# Altium schematic symbol library Antenna.SCHLIB: 130 symbols (part 4 of 4)
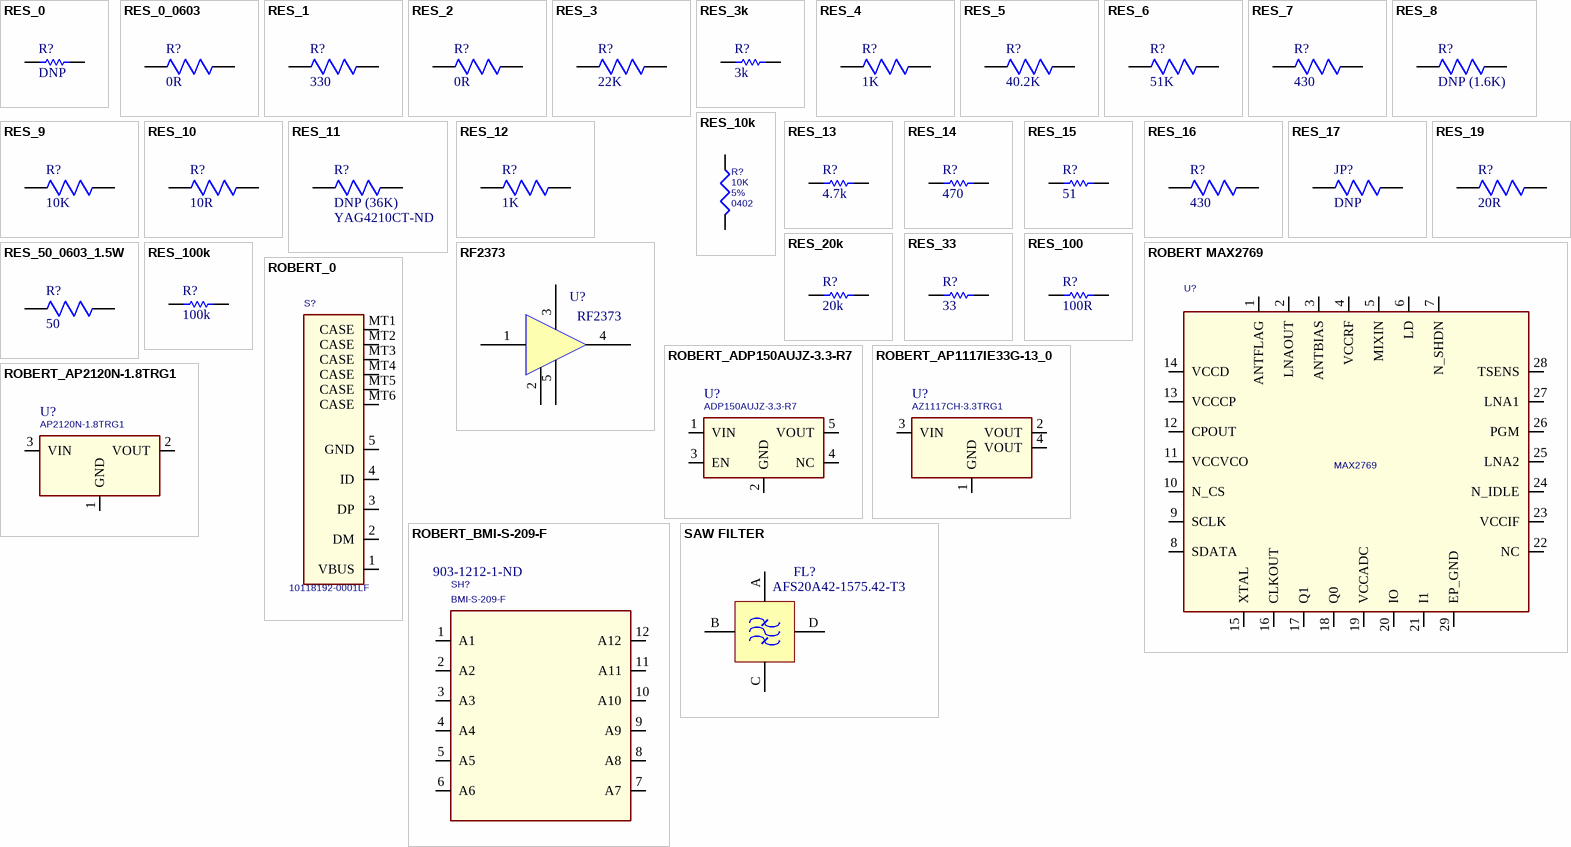
[diagram p6: symbols RES_0 to SAW FILTER]

## RES_33
designator R?, comment 33
Manufacturer Part Number: CRCW040233R0FKTD; Supplier 1: Arrow Electronics; Supplier Part Number 1: CRCW040233R0FKTD
footprint RESC1005X40X25LL05T10 (Chip Resistor, 2-Leads, Body 1.00x0.50mm, IPC High Density)
footprint RESC1005X40X25ML05T10 (Chip Resistor, 2-Leads, Body 1.00x0.50mm, IPC Low Density)
footprint RESC1005X40X25NL05T10 (Chip Resistor, 2-Leads, Body 1.00x0.50mm, IPC Medium Density)
footprint MCMR04X330JTL
pins: 1, 2
1 alternate drawing of the same symbol

## RES_50_0603_1.5W
designator R?, comment 50
50 Ohm Space Resistor; Manufacturer Part Number: 311-430JRCT-ND; Manufacturer: Yageo; Manufacturer Part Number: RC0402JR-07430RL; Resistance: 430R; Tolerance: 5%; Temperature Coefficient: 100ppm/°C; Power Rating: 62.5mW; Voltage Rating: 50V; Max Power Dissipation: 63mW; RoHS: Yes; Category: Chip SMD Resistors; Stock 1: 521; Pricing 1: 1=0.10000, 10=0.01300, 100=0.00530, 1000=0.00236, 2500=0.00205, 5000=0.00169 (USD); Case/Package: 0402; Contact Plating: Tin,Matte; Case Code (Imperial): 0402; Case Code (Metric): 1005; Min Operating Temperature: -55°C; Max Operating Temperature: 155°C; Composition: Thick Film; Voltage Rating (DC): 50V; Packaging: Tape and Reel; Package Quantity: 1; Working Voltage: 50V; Termination: SMD/SMT; Number of Terminations: 2; Military Standard: Not; Features: Moisture Resistant; Length: 0.039inch; Height: 0.016inch; Width: 0.02inch; Depth: 0.5mm; Lead Free: Lead Free; ComponentLink1URL: https://datasheet.ciiva.com/2452/pyu-r-int-thick-7-2452725.pdf?src-supplier=Digi-Key; ComponentLink1Description: https://datasheet.ciiva.com/2452/pyu-r-int-thick-7-2452725.pdf?src-supplier=Digi-Key; ComponentLink2URL: https://datasheet.ciiva.com/16743/pyu-rc0402-51-rohs-l-6-r-16743893.pdf?src-supplier=Future+Electronics; ComponentLink2Description: https://datasheet.ciiva.com/16743/pyu-rc0402-51-rohs-l-6-r-16743893.pdf?src-supplier=Future+Electronics; ComponentLink3URL: https://datasheet.ciiva.com/16863/pyu-rc0402-51-rohs-l-6-16863285.pdf?src-supplier=Avnet+Europe; ComponentLink3Description: https://datasheet.ciiva.com/16863/pyu-rc0402-51-rohs-l-6-16863285.pdf?src-supplier=Avnet+Europe; ComponentLink4URL: https://datasheet.ciiva.com/2452/pyu-r-int-thick-7-2452726.pdf?src-supplier=Digi-Key; ComponentLink4Description: https://datasheet.ciiva.com/2452/pyu-r-int-thick-7-2452726.pdf?src-supplier=Digi-Key; ComponentLink5URL: https://datasheet.ciiva.com/2452/pyu-r-int-thick-7-2452727.pdf?src-supplier=Digi-Key; ComponentLink5Description: https://datasheet.ciiva.com/2452/pyu-r-int-thick-7-2452727.pdf?src-supplier=Digi-Key; ComponentLink6URL: https://datasheet.ciiva.com/28390/pyu-rc0402-51-rohs-l-6-28390744.pdf?src-supplier=Avnet+Europe; ComponentLink6Description: https://datasheet.ciiva.com/28390/pyu-rc0402-51-rohs-l-6-28390744.pdf?src-supplier=Avnet+Europe; Supplier 1: Digi-Key; Supplier Part Number 1: 541-2655-1-ND
footprint RES400
footprint 0805
footprint 1206
footprint 0603
footprint R0402
pins: 1, 2
2 alternate drawings of the same symbol

## RES_100
designator R?, comment 100R
Chip Resistor, 100 Ohm, +/- 1%, 100 mW, -55 to 155 degC, 0402 (1005 Metric), RoHS, Tape and Reel; Manufacturer Part Number: RC0402FR-13100RL; ComponentLink2Description: Datasheet; ComponentLink1URL: http://www.panasonic.com/; ComponentLink1Description: Manufacturer URL; ComponentLink2URL: http://industrial.panasonic.com/cdbs/www-data/pdf/RDA0000/AOA0000C86.pdf; Supplier 1: Avnet; Supplier Part Number 1: RC0402FR-13100RL
footprint RESC1005X40X25LL05T05 (Chip Resistor, 2-Leads, Body 1.05x0.55mm, IPC High Density)
footprint RESC1005X40X25ML05T05 (Chip Resistor, 2-Leads, Body 1.05x0.55mm, IPC Low Density)
footprint RESC1005X40X25NL05T05 (Chip Resistor, 2-Leads, Body 1.05x0.55mm, IPC Medium Density)
footprint 0402_RES
pins: 1, 2

## RES_100k
designator R?, comment 100k
Manufacturer Part Number: CRCW0402100KJNED; Manufacturer: Vishay Dale; Supplier 1: Digi-Key; Supplier Part Number 1: 541-100KJCT-ND
footprint RESC1005X40X25NL05T05 (Chip Resistor, 2-Leads, Body 1.00x0.50mm, IPC Medium Density)
footprint 0402_RES
pins: 1, 2
1 alternate drawing of the same symbol

## RF2373
designator U?
Current-Adjustable, Low Noise Amplifier; Manufacturer: Qorvo; Manufacturer Part Number: RF2373TR7; Supplier 1: Mouser; Supplier Part Number 1: 772-RF2373TR7; RoHS: No; Stock 1: 5841; Pricing 1: 1=0.78000, 25=0.78000, 100=0.78000, 250=0.72000, 500=0.63000, 1000=0.52000, 2500=0.42000 (USD)
footprint SOT23-5
pins: 1 In, 2 Gnd, 3 Bias, 4 Out, 5 Gnd

## ROBERT MAX2769
designator U?, comment MAX2769
Manufacturer Part Number: MAX2769CETI+; Mfg: Maxim; MfgPN: MAX2769ETI+; Interface: SPI; Frequency: 1.575GHz; Current - Receiving: 18mA; Supplier 1: Mouser; Supplier Part Number 1: 700-MAX2769CETI+; Manufacturer: Maxim; RoHS: No; Stock 1: 99; Pricing 1: 1=6.28000, 10=4.62000, 25=3.69000, 50=3.51000, 100=3.23000, 250=3.07000, 2000=3.06000 (USD); Min Operating Temperature: -40°C; Max Operating Temperature: 85°C; Packaging: Rail/Tube; ComponentLink1URL: http://www.farnell.com/datasheets/2575895.pdf?src-supplier=Farnell; ComponentLink1Description: http://www.farnell.com/datasheets/2575895.pdf?src-supplier=Farnell; ComponentLink2URL: https://datasheets.maximintegrated.com/en/ds/MAX2769C.pdf?src-supplier=Digi-Key; ComponentLink2Description: https://datasheets.maximintegrated.com/en/ds/MAX2769C.pdf?src-supplier=Digi-Key
footprint TQFN28(5X5)
pins: 1 ANTFLAG, 2 LNAOUT, 3 ANTBIAS, 4 VCCRF, 5 MIXIN, 6 LD, 7 N_SHDN, 8 SDATA, 9 SCLK, 10 N_CS, 11 VCCVCO, 12 CPOUT, 13 VCCCP, 14 VCCD, 15 XTAL, 16 CLKOUT, 17 Q1, 18 Q0, 19 VCCADC, 20 IO, 21 I1, 22 NC, 23 VCCIF, 24 N_IDLE, 25 LNA2, 26 PGM, 27 LNA1, 28 TSENS, 29 EP_GND

## ROBERT_0
designator S?, comment 10118192-0001LF
CONN RCPT USB2.0 MICRO B SMD R/A; Manufacturer: Amphenol FCI; Mfg: FCI; Gender: Receptacle; Current Rating: 1.8A; Connector Type: USB,Receptacle; Number of Contacts: 5; Number of Ports: 1; Insulation Resistance: 1GR; Max Voltage Rating (AC): 100V; Pitch: 0.65mm; Package: MICROUSB_10118192; MfgPN: 10118192-0001LF; Supplier 1: Newark; Supplier Part Number 1: 67T2258; Manufacturer Part Number: 10118192-0001LF; RoHS: Yes; Category: USB Connectors; Stock 1: 14656; Pricing 1: 1=0.48800, 25=0.34500, 100=0.33200, 250=0.31100, 500=0.28900 (USD); Mount: Surface Mount,Horizontal; Contact Plating: Gold; Housing Material: Polymer; Contact Material: Copper Alloy; Color: Black; Number of Terminals: 5; Min Operating Temperature: -55°C; Max Operating Temperature: 85°C; Termination: Solder; Orientation: Right Angle; Packaging: Tape and Reel; Features: Shielded; Package Quantity: 1400; Voltage Rating: 100V; USB Standard: USB 2.0; Length: 7.86mm; Depth: 5.57mm; Radiation Hardening: No; Flammability Rating: UL94 V-0; Lead Free: Lead Free; REACH SVHC: No SVHC; ComponentLink1URL: https://datasheet.ciiva.com/26853/getdatasheetpartid-418041-26853891.pdf?src-supplier=Verical; ComponentLink1Description: https://datasheet.ciiva.com/26853/getdatasheetpartid-418041-26853891.pdf?src-supplier=Verical; ComponentLink2URL: https://datasheet.ciiva.com/851/10118192-851112.pdf?src-supplier=Digi-Key; ComponentLink2Description: https://datasheet.ciiva.com/851/10118192-851112.pdf?src-supplier=Digi-Key; ComponentLink3URL: https://datasheet.ciiva.com/4598/10118192ac-197249-4598796.pdf?src-supplier=Mouser; ComponentLink3Description: https://datasheet.ciiva.com/4598/10118192ac-197249-4598796.pdf?src-supplier=Mouser
footprint MICROUSB_10118192
pins: 1 VBUS, 2 DM, 3 DP, 4 ID, 5 GND, MT1 CASE, MT2 CASE, MT3 CASE, MT4 CASE, MT5 CASE, MT6 CASE

## ROBERT_ADP150AUJZ-3.3-R7
designator U?, comment ADP150AUJZ-3.3-R7
ANALOG DEVICES - ADP150AUJZ-3.3-R7 - LDO VOLTAGE REGULATOR, 3.3V, 150mA, TSOT-5, FULL REEL; Max Input Voltage: 5.5V; Min Input Voltage: 2.2V; Number of Outputs: 1; Output Type: Fixed; Polarity: Positive; Accuracy: 1%; Dropout Voltage: 105mV; Operating Supply Current: 10uA; Power Supply Rejection Ratio (PSRR): 70dB; Max Supply Current: 320uA; Min Current Limit: 190mA; Package: SOT-23-5; MfgPN: ADP150AUJZ-3.3-R7; Mfg: Analog Devices; Supplier 1: Digi-Key; Supplier Part Number 1: ADP150AUJZ-3.3-R7CT-ND; Manufacturer: Analog Devices; Manufacturer Part Number: ADP150AUJZ-3.3-R7; RoHS: Yes; Category: Voltage Regulators - Linear; Stock 1: 10023; Pricing 1: 1=1.06000, 10=0.94400, 25=0.89600, 100=0.68800, 250=0.60800, 500=0.57600, 1000=0.44800 (USD); Case/Package: TSOT; Number of Pins: 5; Min Operating Temperature: -40°C; Max Operating Temperature: 125°C; Max Output Current: 150mA; Output Voltage: 3.3V; Packaging: Tape and Reel; Nominal Output Voltage: 3.3V; Output Current: 150mA; Number of Regulators: 1; Quiescent Current: 10uA; Nominal Supply Current: 10uA; Output Voltage Accuracy: 1%; Length: 2.9mm; Height: 0.9mm; Width: 1.6mm; REACH SVHC: No SVHC; Lead Free: Contains Lead; ComponentLink1URL: https://datasheet.ciiva.com/2040/adp150-2040608.pdf?src-supplier=Digi-Key; ComponentLink1Description: https://datasheet.ciiva.com/2040/adp150-2040608.pdf?src-supplier=Digi-Key; ComponentLink2URL: https://datasheet.ciiva.com/2040/adp150-2040609.pdf?src-supplier=Digi-Key; ComponentLink2Description: https://datasheet.ciiva.com/2040/adp150-2040609.pdf?src-supplier=Digi-Key; ComponentLink3URL: https://datasheet.ciiva.com/3223/adp150-3223365.pdf?src-supplier=Avnet; ComponentLink3Description: https://datasheet.ciiva.com/3223/adp150-3223365.pdf?src-supplier=Avnet; ComponentLink4URL: https://datasheet.ciiva.com/17365/adp150-17365622.pdf?src-supplier=Avnet+Europe; ComponentLink4Description: https://datasheet.ciiva.com/17365/adp150-17365622.pdf?src-supplier=Avnet+Europe; ComponentLink5URL: https://datasheet.ciiva.com/2040/adp150-2040607.pdf?src-supplier=Digi-Key; ComponentLink5Description: https://datasheet.ciiva.com/2040/adp150-2040607.pdf?src-supplier=Digi-Key; ComponentLink6URL: https://datasheet.ciiva.com/7993/1780757-7993591.pdf?src-supplier=Element14; ComponentLink6Description: https://datasheet.ciiva.com/7993/1780757-7993591.pdf?src-supplier=Element14; ComponentLink7URL: https://datasheet.ciiva.com/3224/adp150-3224652.pdf?src-supplier=Avnet; ComponentLink7Description: https://datasheet.ciiva.com/3224/adp150-3224652.pdf?src-supplier=Avnet
footprint SOT23-5
pins: 1 VIN, 2 GND, 3 EN, 4 NC, 5 VOUT
1 alternate drawing of the same symbol

## ROBERT_AP1117IE33G-13_0
designator U?, comment AZ1117CH-3.3TRG1
IC REG LINEAR 3.3V 800MA SOT223; Manufacturer: Diodes; Mfg: Diodes Inc; Power Supply Rejection Ratio (PSRR): 70dB; Accuracy: 1%; Output Type: Fixed; Number of Regulators: 1; Min Current Limit: 1A; Max Output Current: 1.35A; Quiescent Current: 6mA; Polarity: Positive; Reference Voltage: 1.262V; Max Input Voltage: 15V; Dropout Voltage: 1.2V; Package: SOT-223; MfgPN: AZ1117CH-3.3TRG1; Supplier 1: Digi-Key; Supplier Part Number 1: AZ1117CH-3.3TRG1DICT-ND; Manufacturer Part Number: AZ1117CH-3.3TRG1; RoHS: Yes; Category: Voltage Regulators - Linear; Stock 1: 24536; Pricing 1: 1=0.43000, 10=0.32100, 25=0.28120, 100=0.16060, 250=0.15056, 500=0.12046, 1000=0.09235 (USD); Mount: Surface Mount; Case/Package: SOT-223; Number of Pins: 4; Min Operating Temperature: -20°C; Max Operating Temperature: 125°C; Output Current: 800mA; Packaging: Tape and Reel; Number of Outputs: 1; Output Voltage: 3.3V; Package Quantity: 4000; Length: 6.7mm; Height: 1.7mm; Width: 3.7mm; Lead Free: Lead Free; ComponentLink1URL: https://datasheet.ciiva.com/29569/az1117c-29569915.pdf?src-supplier=Digi-Key; ComponentLink1Description: https://datasheet.ciiva.com/29569/az1117c-29569915.pdf?src-supplier=Digi-Key; ComponentLink2URL: https://datasheet.ciiva.com/29569/az1117c-29569913.pdf?src-supplier=Digi-Key; ComponentLink2Description: https://datasheet.ciiva.com/29569/az1117c-29569913.pdf?src-supplier=Digi-Key; ComponentLink3URL: https://datasheet.ciiva.com/29569/az1117c-29569914.pdf?src-supplier=Digi-Key; ComponentLink3Description: https://datasheet.ciiva.com/29569/az1117c-29569914.pdf?src-supplier=Digi-Key
footprint SOT223
pins: 1 GND, 2 VOUT, 3 VIN, 4 VOUT
1 alternate drawing of the same symbol

## ROBERT_AP2120N-1.8TRG1
designator U?, comment AP2120N-1.8TRG1
In a Pack of 100, DiodesZetex AP2120N-1.8TRG1, LDO Regulator, 1.8 V, ±2% 3-Pin, SOT-23; Manufacturer: Diodes; Mfg: Diodes Inc; Output Type: Fixed; Output Current: 150mA; Number of Regulators: 1; Quiescent Current: 50uA; Polarity: Positive; Operating Supply Current: 25uA; Power Supply Rejection Ratio (PSRR): 65dB; Dropout Voltage: 300mV; Min Input Voltage: 2V; Max Input Voltage: 6V; Output Voltage: 1.8V; Package: SOT-23; MfgPN: AP2120N-1.8TRG1; Supplier 1: Digi-Key; Supplier Part Number 1: AP2120N-1.8TRG1DICT-ND; Manufacturer Part Number: AP2120N-1.8TRG1; RoHS: Yes; Category: Voltage Regulators - Linear; Stock 1: 50528; Pricing 1: 1=0.36000, 10=0.26700, 25=0.23400, 100=0.13370, 250=0.12536, 500=0.10030, 1000=0.07689 (USD); Mount: Surface Mount; Case/Package: SOT-23; Number of Pins: 3; Weight: 0.000282oz; Min Operating Temperature: -40°C; Max Operating Temperature: 85°C; Accuracy: 2%; Max Output Current: 150mA; Package Quantity: 3000; Packaging: Tape and Reel; Number of Outputs: 1; Length: 3mm; Height: 1.1mm; Width: 1.4mm; Lead Free: Lead Free; ComponentLink1URL: https://datasheet.ciiva.com/29569/ap2120-29569973.pdf?src-supplier=Digi-Key; ComponentLink1Description: https://datasheet.ciiva.com/29569/ap2120-29569973.pdf?src-supplier=Digi-Key; ComponentLink2URL: https://datasheet.ciiva.com/30016/ap2120-30016806.pdf?src-supplier=Avnet; ComponentLink2Description: https://datasheet.ciiva.com/30016/ap2120-30016806.pdf?src-supplier=Avnet
footprint SOT23
pins: 1 GND, 2 VOUT, 3 VIN
1 alternate drawing of the same symbol

## ROBERT_BMI-S-209-F
designator SH?, comment BMI-S-209-F  Supplier Part Number 1: 903-1212-1-ND
BOARD SHIELD FRAME; Mfg: Laird; MfgPN: BMI-S-209-F; Manufacturer: Laird; Manufacturer Part Number: BMI-S-209-F; RoHS: Yes; Category: Uncategorized; Stock 1: 18038; Pricing 1: 1=1.77000, 10=1.58100, 25=1.50040, 100=1.23260 (USD); Mount: Solder; Packaging: Tape and Reel; Package Quantity: 400; Length: 1.156inch; Width: 0.728inch; Thickness: 0.275inch; ComponentLink1URL: http://www.mouser.com/ds/2/223/Laird%20BMIS-2-201542.pdf?src-supplier=Mouser; ComponentLink1Description: http://www.mouser.com/ds/2/223/Laird%20BMIS-2-201542.pdf?src-supplier=Mouser; ComponentLink2URL: https://assets.lairdtech.com/home/brandworld/files/EMI-CAT-Essentials%201213.pdf?src-supplier=Digi-Key; ComponentLink2Description: https://assets.lairdtech.com/home/brandworld/files/EMI-CAT-Essentials%201213.pdf?src-supplier=Digi-Key; ComponentLink3URL: http://assets.lairdtech.com/home/brandworld/files/Board%20Level%20Shields%20Catalog%20Download.pdf?src-supplier=Digi-Key; ComponentLink3Description: http://assets.lairdtech.com/home/brandworld/files/Board%20Level%20Shields%20Catalog%20Download.pdf?src-supplier=Digi-Key; Supplier 1: Digi-Key
footprint SHIELD_BMI-S-209-F
footprint BMI-S-209-F
pins: 1 A1, 2 A2, 3 A3, 4 A4, 5 A5, 6 A6, 7 A7, 8 A8, 9 A9, 10 A10, 11 A11, 12 A12

## SAW FILTER
designator FL?  (value not drawn)
2.0*1.6*0.9 mm, SAW FILTER; Manufacturer: Abracon; Manufacturer Part Number: AFS20A42-1575.42-T3; Bandwidth: 42MHz; Frequency: 1.575GHz; Insertion Loss: 1.2dB; Voltage Rating (DC): 7.5V; Impedance: 50R; Supplier 1: Digi-Key; Supplier Part Number 1: 535-12069-1-ND; RoHS: Yes; Category: EMI / RFI Components; Stock 1: 1829; Pricing 1: 1=1.21000, 10=1.16800, 25=0.85680, 50=0.83720, 100=0.81770, 250=0.73988, 500=0.72040, 1000=0.62304 (USD); Mount: Surface Mount; Case/Package: SMD/SMT; Min Operating Temperature: -40°C; Max Operating Temperature: 85°C; Package Quantity: 3000; Packaging: Tape and Reel; Termination: SMD/SMT; Length: 0.079inch; Height: 0.035inch; Width: 0.063inch; ComponentLink1URL: https://datasheet.ciiva.com/14970/afs20a42-1575-42-t3-14970135.pdf?src-supplier=Digi-Key; ComponentLink1Description: https://datasheet.ciiva.com/14970/afs20a42-1575-42-t3-14970135.pdf?src-supplier=Digi-Key; ComponentLink2URL: https://datasheet.ciiva.com/16352/afs20a42-1575-42-t3-243044-16352793.pdf?src-supplier=Mouser; ComponentLink2Description: https://datasheet.ciiva.com/16352/afs20a42-1575-42-t3-243044-16352793.pdf?src-supplier=Mouser; ComponentLink3URL: https://datasheet.ciiva.com/18525/afs20a42-1575-42-t3-18525434.pdf?src-supplier=Digi-Key; ComponentLink3Description: https://datasheet.ciiva.com/18525/afs20a42-1575-42-t3-18525434.pdf?src-supplier=Digi-Key
footprint AFS20A20 (Abracon SAW Filter)
footprint AFS20
footprint AFS20
pins: A GND, B In, C GND, D Out

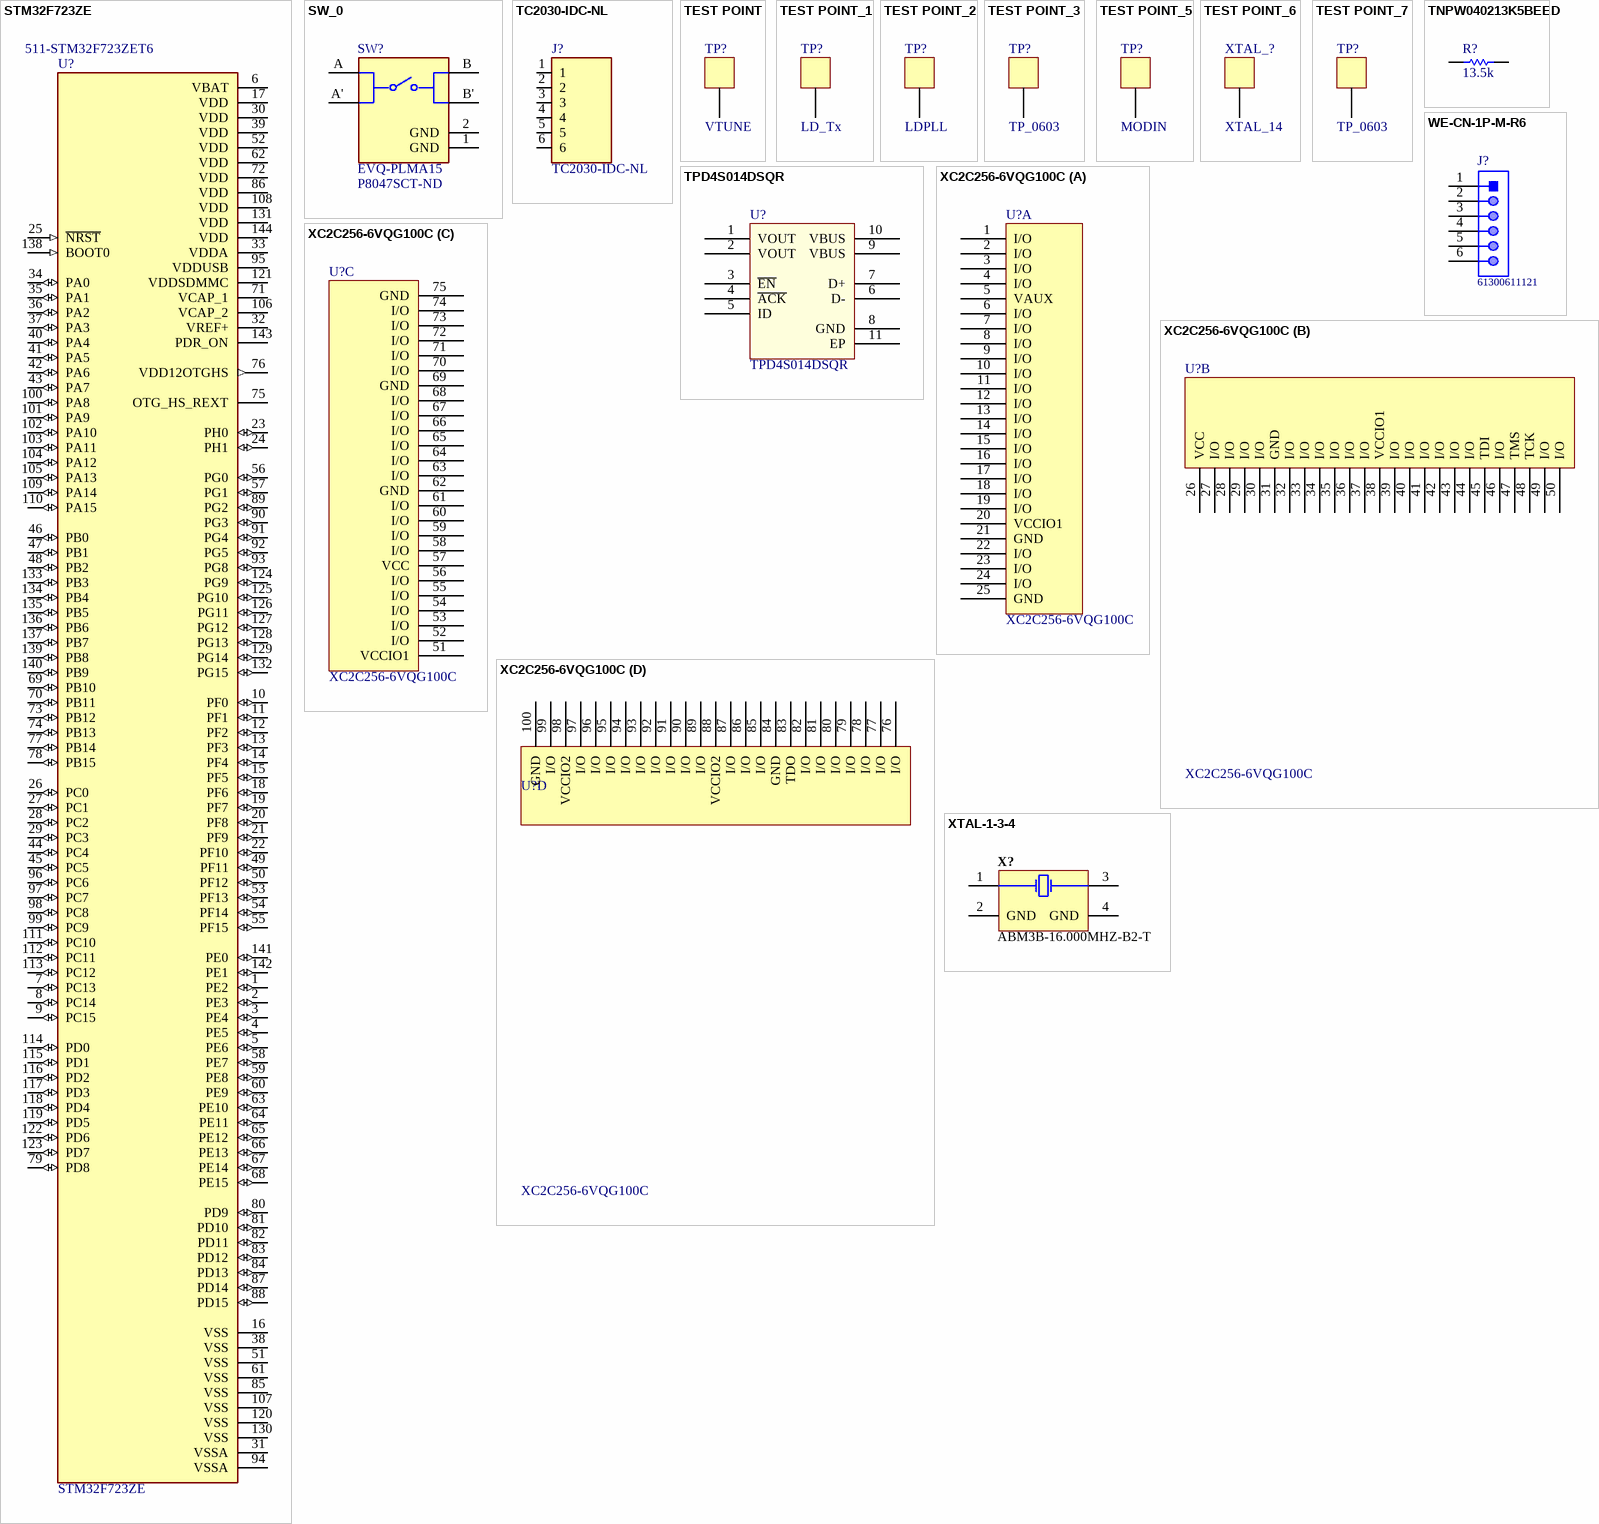
[diagram p3: symbols STM32F723ZE to XTAL-1-3-4]

## STM32F723ZE
designator U?  Supplier Part Number 1: 511-STM32F723ZET6
Manufacturer Part Number: STM32F723ZET6; Supplier 1: Mouser
footprint Model Name (Footprint not found)
footprint QFP50P2200X2200X160-144N
footprint QFP50P2200X2200X160-144N
footprint QFP50P2200X2200X160-144N
pins: 1 PE2 (io), 2 PE3 (io), 3 PE4 (io), 4 PE5 (io), 5 PE6 (io), 6 VBAT (power), 7 PC13 (io), 8 PC14 (io), 9 PC15 (io), 10 PF0 (io), 11 PF1 (io), 12 PF2 (io), 13 PF3 (io), 14 PF4 (io), 15 PF5 (io), 16 VSS (power), 17 VDD (power), 18 PF6 (io), 19 PF7 (io), 20 PF8 (io), 21 PF9 (io), 22 PF10 (io), 23 PH0 (io), 24 PH1 (io), 25 ~{NRST} (in), 26 PC0 (io), 27 PC1 (io), 28 PC2 (io), 29 PC3 (io), 30 VDD (power), 31 VSSA (power), 32 VREF+ (power), 33 VDDA (power), 34 PA0 (io), 35 PA1 (io), 36 PA2 (io), 37 PA3 (io), 38 VSS (power), 39 VDD (power), 40 PA4 (io), 41 PA5 (io), 42 PA6 (io), 43 PA7 (io), 44 PC4 (io), 45 PC5 (io), 46 PB0 (io), 47 PB1 (io), 48 PB2 (io), 49 PF11 (io), 50 PF12 (io), 51 VSS (power), 52 VDD (power), 53 PF13 (io), 54 PF14 (io), 55 PF15 (io), 56 PG0 (io), 57 PG1 (io), 58 PE7 (io), 59 PE8 (io), 60 PE9 (io), 61 VSS (power), 62 VDD (power), 63 PE10 (io), 64 PE11 (io), 65 PE12 (io), 66 PE13 (io), 67 PE14 (io), 68 PE15 (io), 69 PB10 (io), 70 PB11 (io), 71 VCAP_1 (power), 72 VDD (power), 73 PB12 (io), 74 PB13 (io), 75 OTG_HS_REXT, 76 VDD12OTGHS (out), 77 PB14 (io), 78 PB15 (io), 79 PD8 (io), 80 PD9 (io), 81 PD10 (io), 82 PD11 (io), 83 PD12 (io), 84 PD13 (io), 85 VSS (power), 86 VDD (power), 87 PD14 (io), 88 PD15 (io), 89 PG2 (io), 90 PG3 (io), 91 PG4 (io), 92 PG5 (io), 93 PG8 (io), 94 VSSA (power), 95 VDDUSB (power), 96 PC6 (io), 97 PC7 (io), 98 PC8 (io), 99 PC9 (io), 100 PA8 (io), 101 PA9 (io), 102 PA10 (io), 103 PA11 (io), 104 PA12 (io), 105 PA13 (io), 106 VCAP_2 (power), 107 VSS (power), 108 VDD (power), 109 PA14 (io), 110 PA15 (io), 111 PC10 (io), 112 PC11 (io), 113 PC12 (io), 114 PD0 (io), 115 PD1 (io), 116 PD2 (io), 117 PD3 (io), 118 PD4 (io), 119 PD5 (io), 120 VSS (power), 121 VDDSDMMC (power), 122 PD6 (io), 123 PD7 (io), 124 PG9 (io), 125 PG10 (io), 126 PG11 (io), 127 PG12 (io), 128 PG13 (io), 129 PG14 (io), 130 VSS (power), 131 VDD (power), 132 PG15 (io), 133 PB3 (io), 134 PB4 (io), 135 PB5 (io), 136 PB6 (io), 137 PB7 (io), 138 BOOT0 (in), 139 PB8 (io), 140 PB9 (io), 141 PE0 (io), 142 PE1 (io), 143 PDR_ON (power), 144 VDD (power)

## SW_0
designator SW?, comment EVQ-PLMA15  Supplier Part Number 1: P8047SCT-ND
SWITCH TACTILE SPST-NO 0.02A 15V; Manufacturer: Panasonic Electronic Components; Operating Force: 2.6N; Contact Resistance: 50mΩ; Contact Current Rating: 20mA; Electromechanical Life: 200000Cycles; Throw Configuration: SPST-NO; Automotive: No; Digikey Description: SWITCH TACTILE SPST-NO 0.02A 15V; Device Class L3: Tactile Switches; Device Class L2: Switches; Temperature Range Low: -20°C; ComponentLink2Description: Datasheet; RoHS: TRUE; Mount: Surface Mount; Package: 0; Height: 1.7mm; Octopart: https://octopart.com/evq-plma15-panasonic-39850235; Temperature Range High: +70°C; Device Class L1: Electromechanical; Category: Switch; Mouser Description: Tactile Switches FLAT ACT 2.6NF 4.6x3.4x1.5mm; Voltage Rating Dc: 15V; Manufacturer Part Number: EVQ-PLMA15; ComponentLink2URL: https://datasheet.ciiva.com/8164/atv0000ce2-8164994.pdf; Lead Free: Yes; Temperature: -20°C to +70°C; Supplier 1: Digi-Key
footprint FP-EVQ-PLMA15-MFG
footprint MCU_switch
footprint MCU_switch
footprint MCU_switch
pins: 1 GND (power), 2 GND (power), A, A', B, B'

## TC2030-IDC-NL
designator J?  (no BOM)
6-PIN PLUG-OF-NAILS CABLE 6; MF: Tag-Connect; Package: Package Analog Devices; Availability: Unavailable; Value: *; MP: TC2030-IDC-NL; SnapEDA_Link: https://www.snapeda.com/parts/TC2030-IDC-NL/Tag-Connect/view-part/2783029/?ref=snap; Price: None
footprint TAG_TC2030-IDC-NL
footprint TAG_TC2030-IDC-NL
pins: 1, 2, 3, 4, 5, 6

## TEST POINT
designator TP?, comment VTUNE
In a Pack of 25, TE Connectivity 0O 0603 (1608M) Thick Film SMD Resistor ±0% - RCU-0C; Resistance: 0mR; Supplier 1: Digi-Key; Supplier Part Number 1: A106145CT-ND; Manufacturer: TE Connectivity; Manufacturer Part Number: RCU-0C; RoHS: Yes; Category: Chip SMD Resistors; Stock 1: 159007; Pricing 1: 1=0.24000, 10=0.22900, 25=0.19520, 50=0.17080, 100=0.15860, 250=0.14032, 500=0.13422, 1000=0.10982 (USD); Mount: Surface Mount; Case/Package: 0603; Case Code (Imperial): 0603; Case Code (Metric): 1608; Color: Natural; Min Operating Temperature: -55°C; Max Operating Temperature: 125°C; Packaging: Tape and Reel; Termination: SMD/SMT; Package Quantity: 2000; Military Standard: Not; Length: 1.6mm; Height: 1.15mm; Width: 0.8mm; Depth: 0.8mm; Radiation Hardening: No; ComponentLink1URL: https://datasheet.ciiva.com/30100/1773266-a-30100967.pdf?src-supplier=Onlinecomponents.com; ComponentLink1Description: https://datasheet.ciiva.com/30100/1773266-a-30100967.pdf?src-supplier=Onlinecomponents.com; ComponentLink2URL: https://datasheet.ciiva.com/8914/eng-ds-1773266-a-8914634.pdf?src-supplier=Avnet; ComponentLink2Description: https://datasheet.ciiva.com/8914/eng-ds-1773266-a-8914634.pdf?src-supplier=Avnet; ComponentLink3URL: https://datasheet.ciiva.com/6439/eng-ds-1773266-a-6439163.pdf?src-supplier=Digi-Key; ComponentLink3Description: https://datasheet.ciiva.com/6439/eng-ds-1773266-a-6439163.pdf?src-supplier=Digi-Key
footprint TP_0603
pins: 1

## TEST POINT_1
designator TP?, comment LD_Tx
In a Pack of 25, TE Connectivity 0O 0603 (1608M) Thick Film SMD Resistor ±0% - RCU-0C; Manufacturer Part Number: 1625854-3; Resistance: 0mR; Supplier 1: Digi-Key; Supplier Part Number 1: A106145CT-ND; Manufacturer: TE Connectivity; RoHS: Yes; Category: Chip SMD Resistors; Stock 1: 159007; Pricing 1: 1=0.24000, 10=0.22900, 25=0.19520, 50=0.17080, 100=0.15860, 250=0.14032, 500=0.13422, 1000=0.10982 (USD); Mount: Surface Mount; Case/Package: 0603; Case Code (Imperial): 0603; Case Code (Metric): 1608; Color: Natural; Min Operating Temperature: -55°C; Max Operating Temperature: 125°C; Packaging: Tape and Reel; Termination: SMD/SMT; Package Quantity: 2000; Military Standard: Not; Length: 1.6mm; Height: 1.15mm; Width: 0.8mm; Depth: 0.8mm; Radiation Hardening: No; ComponentLink1URL: https://datasheet.ciiva.com/30100/1773266-a-30100967.pdf?src-supplier=Onlinecomponents.com; ComponentLink1Description: https://datasheet.ciiva.com/30100/1773266-a-30100967.pdf?src-supplier=Onlinecomponents.com; ComponentLink2URL: https://datasheet.ciiva.com/8914/eng-ds-1773266-a-8914634.pdf?src-supplier=Avnet; ComponentLink2Description: https://datasheet.ciiva.com/8914/eng-ds-1773266-a-8914634.pdf?src-supplier=Avnet; ComponentLink3URL: https://datasheet.ciiva.com/6439/eng-ds-1773266-a-6439163.pdf?src-supplier=Digi-Key; ComponentLink3Description: https://datasheet.ciiva.com/6439/eng-ds-1773266-a-6439163.pdf?src-supplier=Digi-Key
footprint TP_0603
pins: 1

## TEST POINT_2
designator TP?, comment LDPLL
In a Pack of 25, TE Connectivity 0O 0603 (1608M) Thick Film SMD Resistor ±0% - RCU-0C; Manufacturer Part Number: 1625854-3; Resistance: 0mR; Supplier 1: Digi-Key; Supplier Part Number 1: A106145CT-ND; Manufacturer: TE Connectivity; RoHS: Yes; Category: Chip SMD Resistors; Stock 1: 159007; Pricing 1: 1=0.24000, 10=0.22900, 25=0.19520, 50=0.17080, 100=0.15860, 250=0.14032, 500=0.13422, 1000=0.10982 (USD); Mount: Surface Mount; Case/Package: 0603; Case Code (Imperial): 0603; Case Code (Metric): 1608; Color: Natural; Min Operating Temperature: -55°C; Max Operating Temperature: 125°C; Packaging: Tape and Reel; Termination: SMD/SMT; Package Quantity: 2000; Military Standard: Not; Length: 1.6mm; Height: 1.15mm; Width: 0.8mm; Depth: 0.8mm; Radiation Hardening: No; ComponentLink1URL: https://datasheet.ciiva.com/30100/1773266-a-30100967.pdf?src-supplier=Onlinecomponents.com; ComponentLink1Description: https://datasheet.ciiva.com/30100/1773266-a-30100967.pdf?src-supplier=Onlinecomponents.com; ComponentLink2URL: https://datasheet.ciiva.com/8914/eng-ds-1773266-a-8914634.pdf?src-supplier=Avnet; ComponentLink2Description: https://datasheet.ciiva.com/8914/eng-ds-1773266-a-8914634.pdf?src-supplier=Avnet; ComponentLink3URL: https://datasheet.ciiva.com/6439/eng-ds-1773266-a-6439163.pdf?src-supplier=Digi-Key; ComponentLink3Description: https://datasheet.ciiva.com/6439/eng-ds-1773266-a-6439163.pdf?src-supplier=Digi-Key
footprint TP_0603
pins: 1

## TEST POINT_3
designator TP?, comment TP_0603
In a Pack of 25, TE Connectivity 0O 0603 (1608M) Thick Film SMD Resistor ±0% - RCU-0C; Manufacturer Part Number: 1625854-3; Resistance: 0mR; Supplier 1: Digi-Key; Supplier Part Number 1: A106145CT-ND; Manufacturer: TE Connectivity; RoHS: Yes; Category: Chip SMD Resistors; Stock 1: 158687; Pricing 1: 1=0.24000, 10=0.22900, 25=0.19520, 50=0.17080, 100=0.15860, 250=0.14032, 500=0.13422, 1000=0.10982 (USD); Mount: Surface Mount; Case/Package: 0603; Case Code (Imperial): 0603; Case Code (Metric): 1608; Color: Natural; Min Operating Temperature: -55°C; Max Operating Temperature: 125°C; Packaging: Tape and Reel; Termination: SMD/SMT; Package Quantity: 2000; Military Standard: Not; Length: 1.6mm; Height: 1.15mm; Width: 0.8mm; Depth: 0.8mm; Radiation Hardening: No; ComponentLink1URL: https://datasheet.ciiva.com/30100/1773266-a-30100967.pdf?src-supplier=Onlinecomponents.com; ComponentLink1Description: https://datasheet.ciiva.com/30100/1773266-a-30100967.pdf?src-supplier=Onlinecomponents.com; ComponentLink2URL: https://datasheet.ciiva.com/8914/eng-ds-1773266-a-8914634.pdf?src-supplier=Avnet; ComponentLink2Description: https://datasheet.ciiva.com/8914/eng-ds-1773266-a-8914634.pdf?src-supplier=Avnet; ComponentLink3URL: https://datasheet.ciiva.com/6439/eng-ds-1773266-a-6439163.pdf?src-supplier=Digi-Key; ComponentLink3Description: https://datasheet.ciiva.com/6439/eng-ds-1773266-a-6439163.pdf?src-supplier=Digi-Key
footprint TP_0603
pins: 1

## TEST POINT_5
designator TP?, comment MODIN
In a Pack of 25, TE Connectivity 0O 0603 (1608M) Thick Film SMD Resistor ±0% - RCU-0C; Manufacturer Part Number: 1625854-3; Resistance: 0mR; Supplier 1: Digi-Key; Supplier Part Number 1: A106145CT-ND; Manufacturer: TE Connectivity; RoHS: Yes; Category: Chip SMD Resistors; Stock 1: 159007; Pricing 1: 1=0.24000, 10=0.22900, 25=0.19520, 50=0.17080, 100=0.15860, 250=0.14032, 500=0.13422, 1000=0.10982 (USD); Mount: Surface Mount; Case/Package: 0603; Case Code (Imperial): 0603; Case Code (Metric): 1608; Color: Natural; Min Operating Temperature: -55°C; Max Operating Temperature: 125°C; Packaging: Tape and Reel; Termination: SMD/SMT; Package Quantity: 2000; Military Standard: Not; Length: 1.6mm; Height: 1.15mm; Width: 0.8mm; Depth: 0.8mm; Radiation Hardening: No; ComponentLink1URL: https://datasheet.ciiva.com/30100/1773266-a-30100967.pdf?src-supplier=Onlinecomponents.com; ComponentLink1Description: https://datasheet.ciiva.com/30100/1773266-a-30100967.pdf?src-supplier=Onlinecomponents.com; ComponentLink2URL: https://datasheet.ciiva.com/8914/eng-ds-1773266-a-8914634.pdf?src-supplier=Avnet; ComponentLink2Description: https://datasheet.ciiva.com/8914/eng-ds-1773266-a-8914634.pdf?src-supplier=Avnet; ComponentLink3URL: https://datasheet.ciiva.com/6439/eng-ds-1773266-a-6439163.pdf?src-supplier=Digi-Key; ComponentLink3Description: https://datasheet.ciiva.com/6439/eng-ds-1773266-a-6439163.pdf?src-supplier=Digi-Key
footprint TP_0603
pins: 1

## TEST POINT_6
designator XTAL_?, comment XTAL_14
In a Pack of 25, TE Connectivity 0O 0603 (1608M) Thick Film SMD Resistor ±0% - RCU-0C; Manufacturer Part Number: 1625854-3; Resistance: 0mR; Supplier 1: Digi-Key; Supplier Part Number 1: A106145CT-ND; Manufacturer: TE Connectivity; RoHS: Yes; Category: Chip SMD Resistors; Stock 1: 159007; Pricing 1: 1=0.24000, 10=0.22900, 25=0.19520, 50=0.17080, 100=0.15860, 250=0.14032, 500=0.13422, 1000=0.10982 (USD); Mount: Surface Mount; Case/Package: 0603; Case Code (Imperial): 0603; Case Code (Metric): 1608; Color: Natural; Min Operating Temperature: -55°C; Max Operating Temperature: 125°C; Packaging: Tape and Reel; Termination: SMD/SMT; Package Quantity: 2000; Military Standard: Not; Length: 1.6mm; Height: 1.15mm; Width: 0.8mm; Depth: 0.8mm; Radiation Hardening: No; ComponentLink1URL: https://datasheet.ciiva.com/30100/1773266-a-30100967.pdf?src-supplier=Onlinecomponents.com; ComponentLink1Description: https://datasheet.ciiva.com/30100/1773266-a-30100967.pdf?src-supplier=Onlinecomponents.com; ComponentLink2URL: https://datasheet.ciiva.com/8914/eng-ds-1773266-a-8914634.pdf?src-supplier=Avnet; ComponentLink2Description: https://datasheet.ciiva.com/8914/eng-ds-1773266-a-8914634.pdf?src-supplier=Avnet; ComponentLink3URL: https://datasheet.ciiva.com/6439/eng-ds-1773266-a-6439163.pdf?src-supplier=Digi-Key; ComponentLink3Description: https://datasheet.ciiva.com/6439/eng-ds-1773266-a-6439163.pdf?src-supplier=Digi-Key
footprint TP_0603
pins: 1

## TEST POINT_7
designator TP?, comment TP_0603
Test Point
footprint TP_0603
pins: 1

## TNPW040213K5BEED
designator R?, comment 13.5k
RES 13.5K OHM 0.1% 1/10W 0402; Manufacturer: Vishay Dale; Manufacturer Part Number: TNPW040213K5BEED; Resistance: 13.5kR; Max Power Dissipation: 63mW; Temperature Coefficient: 25ppm/°C; Supplier 1: Digi-Key; Supplier Part Number 1: 541-4463-1-ND; RoHS: Yes; Category: Chip SMD Resistors; Stock 1: 6294; Pricing 1: 1=0.62000, 10=0.44000, 100=0.22880, 1000=0.12320, 2500=0.11968 (USD); Case/Package: 0402; Contact Plating: Tin; Min Operating Temperature: -55°C; Max Operating Temperature: 125°C; Features: Moisture Resistant,Automotive AEC-Q200,Anti-Sulfur; Composition: Thin Film; Packaging: Tape and Reel; Tolerance: 0.1%; Number of Terminations: 2; Length: 0.039inch; Height: 0.016inch; Width: 0.02inch; Radiation Hardening: No; ComponentLink1URL: https://datasheet.ciiva.com/9042/tnpw-e3-9042494.pdf?src-supplier=Avnet; ComponentLink1Description: https://datasheet.ciiva.com/9042/tnpw-e3-9042494.pdf?src-supplier=Avnet
footprint TNPW040213K5BEED
footprint TNPW040213K5BEED
pins: 1, 2

## TPD4S014DSQR
designator U?
TEXAS INSTRUMENTS - TPD4S014DSQR - USB PORT PROTECT, 10SON; Number of Channels: 4; Operating Supply Voltage: 30V; Capacitance: 1.6pF; Direction: Unidirectional; Min Breakdown Voltage: 28V; Breakdown Voltage: 6V; Number of Transceivers: 1; Data Rate: 480Mbps; ESD Protection: Yes; Leakage Current: 1uA; Clamping Voltage: 15V; Supplier 1: Digi-Key; Supplier Part Number 1: 296-29093-2-ND; Supplier 2: Digi-Key; Supplier Part Number 2: 296-29093-1-ND; Manufacturer: Texas Instruments; Manufacturer Part Number: TPD4S014DSQR; RoHS: Yes; Category: ESD and Circuit Protection ICs; Stock 2: 11498; Pricing 2: 1=1.60000, 10=1.42800, 25=1.35520, 100=1.01640, 250=1.00672, 500=0.86152, 1000=0.70180 (USD); Number of Pins: 10; Min Operating Temperature: -40°C; Max Operating Temperature: 85°C; Package Quantity: 1; Packaging: Tape and Reel; Interface: USB; Termination: SMD/SMT; Working Voltage: 30V; Length: 2mm; Height: 0.75mm; Width: 2.1mm; Depth: 2mm; Radiation Hardening: No; REACH SVHC: No SVHC; Lead Free: Lead Free; ComponentLink1URL: https://datasheet.ciiva.com/4479/slvsau0c-121160-4479408.pdf?src-supplier=Mouser; ComponentLink1Description: https://datasheet.ciiva.com/4479/slvsau0c-121160-4479408.pdf?src-supplier=Mouser; ComponentLink2URL: https://datasheet.ciiva.com/2080/tpd4s014-2080562.pdf?src-supplier=Digi-Key; ComponentLink2Description: https://datasheet.ciiva.com/2080/tpd4s014-2080562.pdf?src-supplier=Digi-Key; ComponentLink3URL: https://datasheet.ciiva.com/1611/tpd4s014-1611604.pdf?src-supplier=Newark; ComponentLink3Description: https://datasheet.ciiva.com/1611/tpd4s014-1611604.pdf?src-supplier=Newark; ComponentLink4URL: https://datasheet.ciiva.com/1220/1441886-1220492.pdf?src-supplier=Newark; ComponentLink4Description: https://datasheet.ciiva.com/1220/1441886-1220492.pdf?src-supplier=Newark; ComponentLink5URL: https://datasheet.ciiva.com/3805/tpd4s014-3805912.pdf?src-supplier=Arrow; ComponentLink5Description: https://datasheet.ciiva.com/3805/tpd4s014-3805912.pdf?src-supplier=Arrow; ComponentLink6URL: https://datasheet.ciiva.com/2080/tpd4s014-2080563.pdf?src-supplier=Digi-Key; ComponentLink6Description: https://datasheet.ciiva.com/2080/tpd4s014-2080563.pdf?src-supplier=Digi-Key; ComponentLink7URL: https://datasheet.ciiva.com/1271/1533142-1271900.pdf?src-supplier=Farnell; ComponentLink7Description: https://datasheet.ciiva.com/1271/1533142-1271900.pdf?src-supplier=Farnell; ComponentLink8URL: https://datasheet.ciiva.com/2080/tpd4s014-2080564.pdf?src-supplier=Digi-Key; ComponentLink8Description: https://datasheet.ciiva.com/2080/tpd4s014-2080564.pdf?src-supplier=Digi-Key
footprint WSON-10(2x2)
pins: 1 VOUT, 2 VOUT, 3 ~{EN}, 4 ~{ACK}, 5 ID, 6 D-, 7 D+, 8 GND, 9 VBUS, 10 VBUS, 11 EP

## WE-CN-1P-M-R6
designator J?, comment 61300611121
THT Vertical Pin Header WR-PHD, Pitch 2.54 mm, Single Row, 6 pins; Manufacturer: Wurth Elektronik; Gender: Male; Pin Number: 6; Pitch: 2.54mm; Working Voltage: 250VAC; Rated Current: 3A; Withstanding Voltage: 500VAC; Contact Resistance: 20mOhm; Operating Temperature: -40to105degC; Packaging: Bag; Datasheet URL: https://katalog.we-online.de/em/datasheet/6130xx11121.pdf; Package Reference: 61300611121; Mounting Technology: THT; Publisher: WurthElektronik; Manufacturer Part Number: 61300611121; Manufacturer URL: http://www.we-online.de; Row Number: Single; Orientation: Vertical; Supplier 1: Digi-Key; Supplier Part Number 1: 732-5319-ND
footprint 61300611121 (Pin Header, pitch 2.54 mm, THT, Vertical, single row, 6p)
footprint JTAG6
pins: 1, 2, 3, 4, 5, 6

## XC2C256-6VQG100C
designator U?
CPLD; Manufacturer Part Number: XC2C256-6VQG100C; Supplier 1: Avnet; Supplier Part Number 1: XC2C256-6VQG100C
footprint XC2C256-7VQG100C
part A pins: 1 I/O, 2 I/O, 3 I/O, 4 I/O, 5 VAUX, 6 I/O, 7 I/O, 8 I/O, 9 I/O, 10 I/O, 11 I/O, 12 I/O, 13 I/O, 14 I/O, 15 I/O, 16 I/O, 17 I/O, 18 I/O, 19 I/O, 20 VCCIO1, 21 GND, 22 I/O, 23 I/O, 24 I/O, 25 GND
part B pins: 26 VCC, 27 I/O, 28 I/O, 29 I/O, 30 I/O, 31 GND, 32 I/O, 33 I/O, 34 I/O, 35 I/O, 36 I/O, 37 I/O, 38 VCCIO1, 39 I/O, 40 I/O, 41 I/O, 42 I/O, 43 I/O, 44 I/O, 45 TDI, 46 I/O, 47 TMS, 48 TCK, 49 I/O, 50 I/O
part C pins: 51 VCCIO1, 52 I/O, 53 I/O, 54 I/O, 55 I/O, 56 I/O, 57 VCC, 58 I/O, 59 I/O, 60 I/O, 61 I/O, 62 GND, 63 I/O, 64 I/O, 65 I/O, 66 I/O, 67 I/O, 68 I/O, 69 GND, 70 I/O, 71 I/O, 72 I/O, 73 I/O, 74 I/O, 75 GND
part D pins: 76 I/O, 77 I/O, 78 I/O, 79 I/O, 80 I/O, 81 I/O, 82 I/O, 83 TDO, 84 GND, 85 I/O, 86 I/O, 87 I/O, 88 VCCIO2, 89 I/O, 90 I/O, 91 I/O, 92 I/O, 93 I/O, 94 I/O, 95 I/O, 96 I/O, 97 I/O, 98 VCCIO2, 99 I/O, 100 GND

## XTAL-1-3-4
designator X?, comment ABM3B-16.000MHZ-B2-T
Ceramic SMD Crystal, 16 MHz, +/- 20 ppm, 50 Ohm, -20 to 70 degC, 4-Pin SMD, RoHS, Tape and Reel; Current Rating: 1.82 A; Resistance: 0.033 Ohm; Tolerance: 30%; Shielding: Shielded; REACH SVHC: Unknown; RoHSCompliant: True; PackageReference: ABM3B; Mount: Surface Mount; Max Operating Temperature: 105degC; DatasheetVersion: Aug-15; Package Quantity: 500; PackageDescription: 4-Pin Surface Mount Device, Body 5 x 3.2 mm; ComponentLink2URL: http://www.abracon.com/Resonators/abm3b.pdf; Packaging: Tape and Reel; Height: 2.8 mm; ComponentLink1URL: http://www.abracon.com/; ComponentLink2Description: Datasheet; Length: 0.197 inch; ComponentLink1Description: Manufacturer URL; Case/Package: 5028; Width: 0.197 inch; Min Operating Temperature: -40degC; Supplier 1: Digi-Key; Supplier Part Number 1: 535-9122-1-ND; Manufacturer Part Number: ABM3B-16.000MHZ-B2-T
footprint ABRA-ABM3B-4_V (SMD, 4-Leads, Body 5x3.2mm)
footprint ABM3B-16.000MHZ-B2-T
pins: 1 X1, 2 GND (power), 3 X2, 4 GND (power)